# Altium integrated library Integrated_Library.IntLib: 1 symbol
Pins are listed as number, name and electrical type; pins without a type are passive.

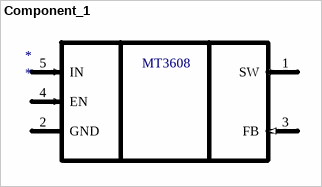
[diagram p0: symbol Component_1]

## Component_1
designator *
footprint SOT23-6 (6-Lead Small Outline Transistor Package)
pins: 1 SW (out), 2 GND (power), 3 FB (in), 4 EN (in), 5 IN (in), 6 NC (out) hidden
text: MT3608